# Altium footprint library ESP32 Relay Card.PcbLib: 19 footprints (part 2 of 2)
Each footprint in its own frame and in the unit in brackets; x right, y up, seen from the top. Pads: shape width x height; smd on the part's side, far side on the other; paste and mask are expansions set on the pad; w line width, h text height; cw(c..) or ccw(c..) is an arc to the next point about the centre after c.
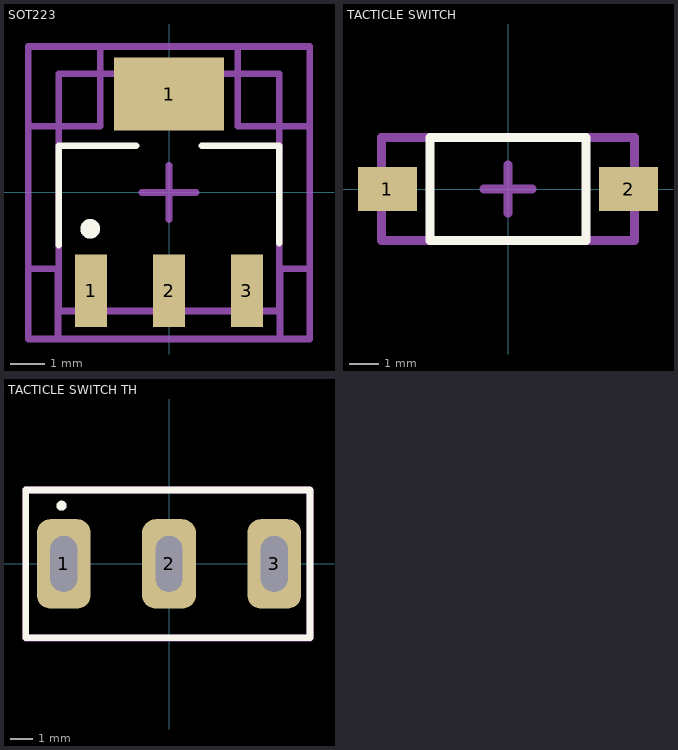
[diagram p1: the footprints below, top view; thin cyan lines are the x and y axes]

## SOT223 [mm]
pads (4):
  rect 0.95x2.15 smd mask+0.102: 1(-2.3,-2.9) 2(0,-2.9) 3(2.3,-2.9)
  rect 3.25x2.15 smd mask+0.102: 1(0,2.9)
Top Overlay:
  circle w0.4: c-2.325,-1.075 r0.09
  lines w0.2: -3.25,-1.55 -3.25,1.375 -0.975,1.375 ; 0.975,1.375 3.25,1.375 3.25,-1.5
Top 3D Body:
  lines w0.2: -3.25,-3.5 3.25,-3.5 3.25,3.5 -3.25,3.5 -3.25,-3.5
Top Component Center:
  lines w0.2: -0.802,-0.006 -0.002,-0.006 ; 0,-0.8 0,0 ; 0,0.8 0,0 ; 0.8,0 0,0 ; -4.15,-2.25 -3.275,-2.25 -3.275,-4.325 3.275,-4.325 3.275,-2.25 4.15,-2.25 4.15,1.95 2.025,1.95 2.025,4.3 -2.025,4.3 -2.025,1.95 -4.15,1.95 -4.15,-2.25
Top Designator:
  lines w0.2: -4.15,-4.325 4.15,-4.325 4.15,4.3 2.025,4.3 -4.15,4.3 -4.15,-4.325
  text ".Designator" at -0.4,-0.808 h1.4
3D body "AMS1117-3.3.STEP": height 1.8, standoff 0, extent -3.251,-3.499 3.251,3.499

## TACTICLE SWITCH [mm]
pads (2):
  rect 2x1.5 smd mask+0.05: 1(-4.1,0) 2(4.1,0)
Top Overlay:
  lines w0.3: -2.65,-1.75 -2.65,1.75 2.65,1.75 2.65,-1.75 -2.65,-1.75
Top 3D Body:
  lines w0.3: -4.3,-1.75 4.3,-1.75 4.3,1.75 -4.3,1.75 -4.3,-1.75
Top Component Center:
  lines w0.3: -0.825,0 0,0 ; 0,-0.825 0,0 ; 0,0.825 0,0 ; 0.825,0 0,0 ; -4.3,-1.75 4.3,-1.75 4.3,1.75 -4.3,1.75 -4.3,-1.75
Top Designator:
  lines w0.3: -4.3,-1.75 -4.3,1.75 4.3,1.75 4.3,-1.75 -4.3,-1.75
  text ".Designator" at 0.025,-0.675 h1.5
3D body "PTS636SM43SMTRLFS.stp": height 4.3, standoff -0.03, extent -4.3,-1.75 4.3,1.75

## TACTICLE SWITCH TH [mm]
pads (3):
  rrect50% 2.4x4 hole 1.2 slot 2.5 at 90 deg mask+0.05: 1(-4.7,0) 2(0,0) 3(4.7,0)
Top Overlay:
  circle w0.25: c-4.8,2.6 r0.1
  lines w0.3: -6.4,-3.3 6.3,-3.3 6.3,3.3 -6.4,3.3 -6.4,-3.3
Top 3D Body:
  lines w0.3: -6.405,3.3 -6.405,-3.3 6.3,-3.3 6.3,3.3 -6.4,3.3
Top Component Center:
  lines w0.3: -0.9,0 0,0 ; 0,-0.9 0,0 ; 0,0.9 0,0 ; 0.9,0 0,0 ; -6.4,-3.3 6.3,-3.3 6.3,3.3 -6.4,3.3 -6.4,-3.3
Top Designator:
  lines w0.3: -6.401,-3.308 6.299,-3.308 6.299,3.292 -6.401,3.292 -6.401,-3.308
  text ".Designator" at 1.9,-0.7 h1.5
3D body "500SSP1S2M2QEA--3DModel-STEP-520916.STEP": height 13.59, standoff -6.6, extent -6.35,-3.3 6.35,3.3